# Altium integrated library National Semiconductor LDO.IntLib: 2675 symbols (part 52 of 65)
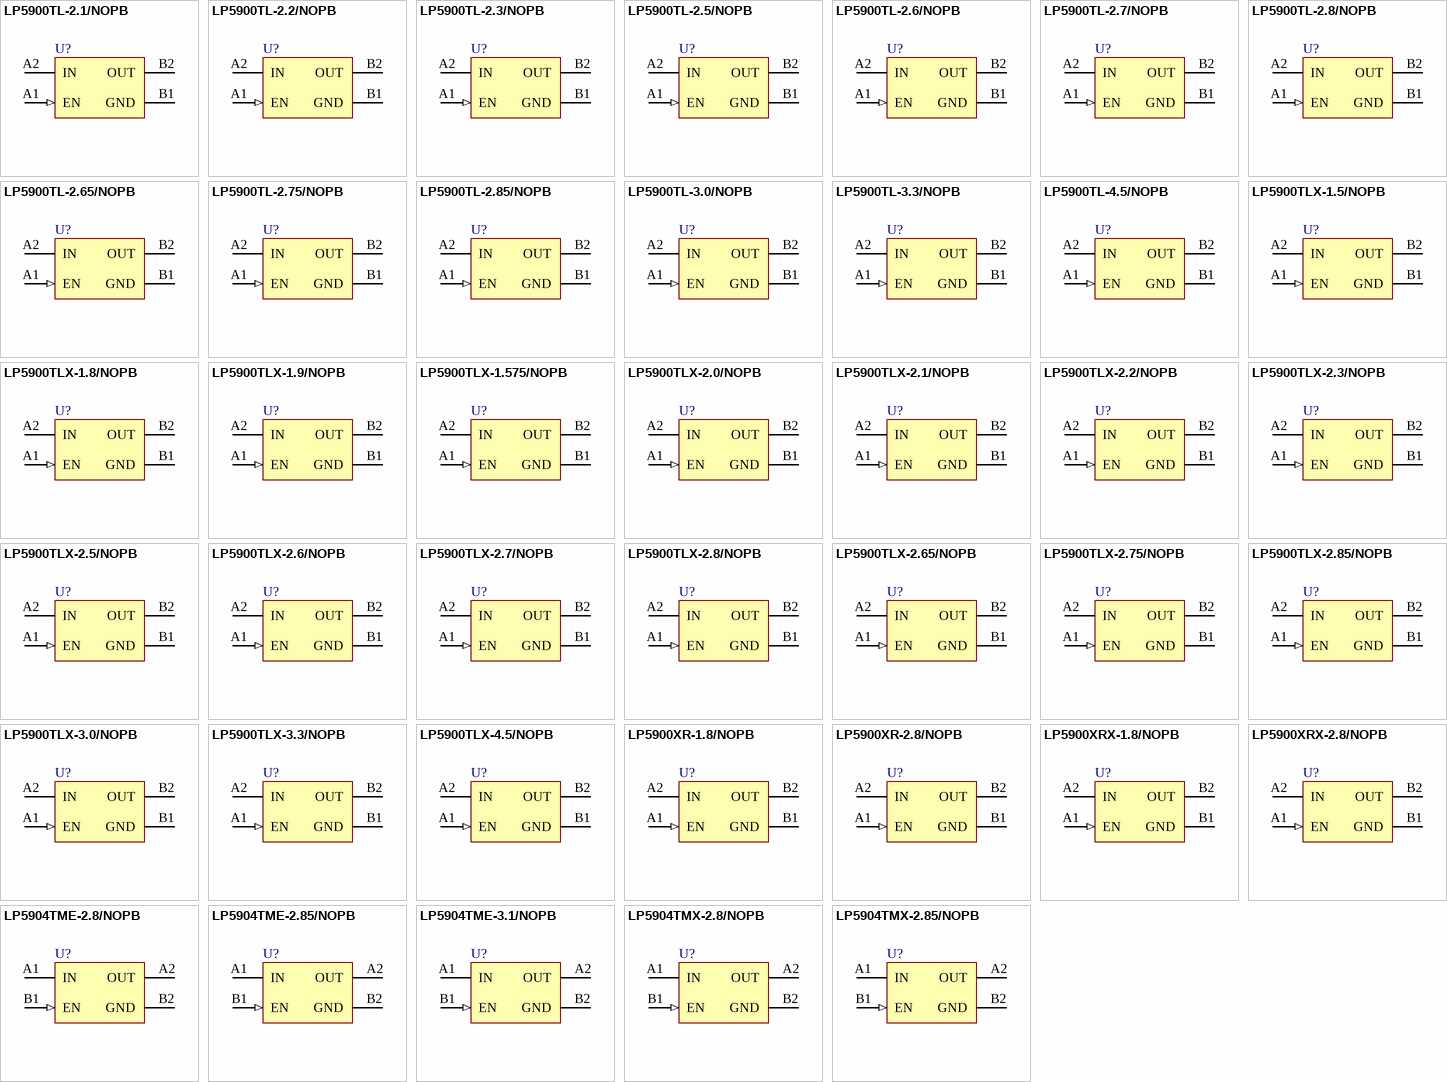
[diagram p118: symbols LP5900TL-2.1/NOPB to LP5904TMX-2.85/NOPB]

## LP5900TLX-1.9/NOPB
designator U?
Ultra Low Noise, 150mA Linear Regulator for RF/Analog Circuits Requires No Bypass Capacitor, 4-pin Micro SMD, Pb-Free; PartNumber: LP5900TLX-1.9/NOPB; Manufacturer: National Semiconductor; PackageTopMarking: X*I; PowerWise: N; CompType: LDO IC; High-Reliability: Y; DatasheetVersion: Jul-2010; PackageVersion: revD, Mar-2005; PackageReference: TLA04BCA; PackageDescription: Thin Micro SMD, 4 Bump (Large), 0.5mm Pitch; RoHS: Y; PinCount: 4; Code_JEDEC: MO-211-BA; ComponentLink1Description: Manufacturer URL; ComponentLink1URL: http://www.national.com/; ComponentLink2Description: LP5900 Datasheet; ComponentLink2URL: http://www.national.com/ds/LP/LP5900.pdf; ComponentLink3Description: LP5900 Web Page; ComponentLink3URL: http://www.national.com/pf/LP/LP5900.html; ComponentLink4Description: TLA04BCA Package Page; ComponentLink4URL: http://www.national.com/packaging/folders/tla04bca.html
footprint TLA04BCA (Micro SMD, 4-Leads, Body 1.07x1.04mm, Pitch 0.5mm, NSC Recommended)
pins: A1 EN (in), A2 IN (power), B1 GND (power), B2 OUT (power)

## LP5900TLX-1.575/NOPB
designator U?
Ultra Low Noise, 150mA Linear Regulator for RF/Analog Circuits Requires No Bypass Capacitor, 4-pin Micro SMD, Pb-Free; PartNumber: LP5900TLX-1.575/NOPB; Manufacturer: National Semiconductor; PackageTopMarking: X*I; PowerWise: N; CompType: LDO IC; High-Reliability: Y; DatasheetVersion: Jul-2010; PackageVersion: revD, Mar-2005; PackageReference: TLA04BCA; PackageDescription: Thin Micro SMD, 4 Bump (Large), 0.5mm Pitch; RoHS: Y; PinCount: 4; Code_JEDEC: MO-211-BA; ComponentLink1Description: Manufacturer URL; ComponentLink1URL: http://www.national.com/; ComponentLink2Description: LP5900 Datasheet; ComponentLink2URL: http://www.national.com/ds/LP/LP5900.pdf; ComponentLink3Description: LP5900 Web Page; ComponentLink3URL: http://www.national.com/pf/LP/LP5900.html; ComponentLink4Description: TLA04BCA Package Page; ComponentLink4URL: http://www.national.com/packaging/folders/tla04bca.html
footprint TLA04BCA (Micro SMD, 4-Leads, Body 1.07x1.04mm, Pitch 0.5mm, NSC Recommended)
pins: A1 EN (in), A2 IN (power), B1 GND (power), B2 OUT (power)

## LP5900TLX-2.0/NOPB
designator U?
Ultra Low Noise, 150mA Linear Regulator for RF/Analog Circuits Requires No Bypass Capacitor, 4-pin Micro SMD, Pb-Free; PartNumber: LP5900TLX-2.0/NOPB; Manufacturer: National Semiconductor; PackageTopMarking: X*I; PowerWise: N; CompType: LDO IC; High-Reliability: Y; DatasheetVersion: Jul-2010; PackageVersion: revD, Mar-2005; PackageReference: TLA04BCA; PackageDescription: Thin Micro SMD, 4 Bump (Large), 0.5mm Pitch; RoHS: Y; PinCount: 4; Code_JEDEC: MO-211-BA; ComponentLink1Description: Manufacturer URL; ComponentLink1URL: http://www.national.com/; ComponentLink2Description: LP5900 Datasheet; ComponentLink2URL: http://www.national.com/ds/LP/LP5900.pdf; ComponentLink3Description: LP5900 Web Page; ComponentLink3URL: http://www.national.com/pf/LP/LP5900.html; ComponentLink4Description: TLA04BCA Package Page; ComponentLink4URL: http://www.national.com/packaging/folders/tla04bca.html
footprint TLA04BCA (Micro SMD, 4-Leads, Body 1.07x1.04mm, Pitch 0.5mm, NSC Recommended)
pins: A1 EN (in), A2 IN (power), B1 GND (power), B2 OUT (power)

## LP5900TLX-2.1/NOPB
designator U?
Ultra Low Noise, 150mA Linear Regulator for RF/Analog Circuits Requires No Bypass Capacitor, 4-pin Micro SMD, Pb-Free; PartNumber: LP5900TLX-2.1/NOPB; Manufacturer: National Semiconductor; PackageTopMarking: X*I; PowerWise: N; CompType: LDO IC; High-Reliability: Y; DatasheetVersion: Jul-2010; PackageVersion: revD, Mar-2005; PackageReference: TLA04BCA; PackageDescription: Thin Micro SMD, 4 Bump (Large), 0.5mm Pitch; RoHS: Y; PinCount: 4; Code_JEDEC: MO-211-BA; ComponentLink1Description: Manufacturer URL; ComponentLink1URL: http://www.national.com/; ComponentLink2Description: LP5900 Datasheet; ComponentLink2URL: http://www.national.com/ds/LP/LP5900.pdf; ComponentLink3Description: LP5900 Web Page; ComponentLink3URL: http://www.national.com/pf/LP/LP5900.html; ComponentLink4Description: TLA04BCA Package Page; ComponentLink4URL: http://www.national.com/packaging/folders/tla04bca.html
footprint TLA04BCA (Micro SMD, 4-Leads, Body 1.07x1.04mm, Pitch 0.5mm, NSC Recommended)
pins: A1 EN (in), A2 IN (power), B1 GND (power), B2 OUT (power)

## LP5900TLX-2.2/NOPB
designator U?
Ultra Low Noise, 150mA Linear Regulator for RF/Analog Circuits Requires No Bypass Capacitor, 4-pin Micro SMD, Pb-Free; PartNumber: LP5900TLX-2.2/NOPB; Manufacturer: National Semiconductor; PackageTopMarking: X*I; PowerWise: N; CompType: LDO IC; High-Reliability: Y; DatasheetVersion: Jul-2010; PackageVersion: revD, Mar-2005; PackageReference: TLA04BCA; PackageDescription: Thin Micro SMD, 4 Bump (Large), 0.5mm Pitch; RoHS: Y; PinCount: 4; Code_JEDEC: MO-211-BA; ComponentLink1Description: Manufacturer URL; ComponentLink1URL: http://www.national.com/; ComponentLink2Description: LP5900 Datasheet; ComponentLink2URL: http://www.national.com/ds/LP/LP5900.pdf; ComponentLink3Description: LP5900 Web Page; ComponentLink3URL: http://www.national.com/pf/LP/LP5900.html; ComponentLink4Description: TLA04BCA Package Page; ComponentLink4URL: http://www.national.com/packaging/folders/tla04bca.html
footprint TLA04BCA (Micro SMD, 4-Leads, Body 1.07x1.04mm, Pitch 0.5mm, NSC Recommended)
pins: A1 EN (in), A2 IN (power), B1 GND (power), B2 OUT (power)

## LP5900TLX-2.3/NOPB
designator U?
Ultra Low Noise, 150mA Linear Regulator for RF/Analog Circuits Requires No Bypass Capacitor, 4-pin Micro SMD, Pb-Free; PartNumber: LP5900TLX-2.3/NOPB; Manufacturer: National Semiconductor; PackageTopMarking: X*I; PowerWise: N; CompType: LDO IC; High-Reliability: Y; DatasheetVersion: Jul-2010; PackageVersion: revD, Mar-2005; PackageReference: TLA04BCA; PackageDescription: Thin Micro SMD, 4 Bump (Large), 0.5mm Pitch; RoHS: Y; PinCount: 4; Code_JEDEC: MO-211-BA; ComponentLink1Description: Manufacturer URL; ComponentLink1URL: http://www.national.com/; ComponentLink2Description: LP5900 Datasheet; ComponentLink2URL: http://www.national.com/ds/LP/LP5900.pdf; ComponentLink3Description: LP5900 Web Page; ComponentLink3URL: http://www.national.com/pf/LP/LP5900.html; ComponentLink4Description: TLA04BCA Package Page; ComponentLink4URL: http://www.national.com/packaging/folders/tla04bca.html
footprint TLA04BCA (Micro SMD, 4-Leads, Body 1.07x1.04mm, Pitch 0.5mm, NSC Recommended)
pins: A1 EN (in), A2 IN (power), B1 GND (power), B2 OUT (power)

## LP5900TLX-2.5/NOPB
designator U?
Ultra Low Noise, 150mA Linear Regulator for RF/Analog Circuits Requires No Bypass Capacitor, 4-pin Micro SMD, Pb-Free; PartNumber: LP5900TLX-2.5/NOPB; Manufacturer: National Semiconductor; PackageTopMarking: X*I; PowerWise: N; CompType: LDO IC; High-Reliability: Y; DatasheetVersion: Jul-2010; PackageVersion: revD, Mar-2005; PackageReference: TLA04BCA; PackageDescription: Thin Micro SMD, 4 Bump (Large), 0.5mm Pitch; RoHS: Y; PinCount: 4; Code_JEDEC: MO-211-BA; ComponentLink1Description: Manufacturer URL; ComponentLink1URL: http://www.national.com/; ComponentLink2Description: LP5900 Datasheet; ComponentLink2URL: http://www.national.com/ds/LP/LP5900.pdf; ComponentLink3Description: LP5900 Web Page; ComponentLink3URL: http://www.national.com/pf/LP/LP5900.html; ComponentLink4Description: TLA04BCA Package Page; ComponentLink4URL: http://www.national.com/packaging/folders/tla04bca.html
footprint TLA04BCA (Micro SMD, 4-Leads, Body 1.07x1.04mm, Pitch 0.5mm, NSC Recommended)
pins: A1 EN (in), A2 IN (power), B1 GND (power), B2 OUT (power)

## LP5900TLX-2.6/NOPB
designator U?
Ultra Low Noise, 150mA Linear Regulator for RF/Analog Circuits Requires No Bypass Capacitor, 4-pin Micro SMD, Pb-Free; PartNumber: LP5900TLX-2.6/NOPB; Manufacturer: National Semiconductor; PackageTopMarking: X*I; PowerWise: N; CompType: LDO IC; High-Reliability: Y; DatasheetVersion: Jul-2010; PackageVersion: revD, Mar-2005; PackageReference: TLA04BCA; PackageDescription: Thin Micro SMD, 4 Bump (Large), 0.5mm Pitch; RoHS: Y; PinCount: 4; Code_JEDEC: MO-211-BA; ComponentLink1Description: Manufacturer URL; ComponentLink1URL: http://www.national.com/; ComponentLink2Description: LP5900 Datasheet; ComponentLink2URL: http://www.national.com/ds/LP/LP5900.pdf; ComponentLink3Description: LP5900 Web Page; ComponentLink3URL: http://www.national.com/pf/LP/LP5900.html; ComponentLink4Description: TLA04BCA Package Page; ComponentLink4URL: http://www.national.com/packaging/folders/tla04bca.html
footprint TLA04BCA (Micro SMD, 4-Leads, Body 1.07x1.04mm, Pitch 0.5mm, NSC Recommended)
pins: A1 EN (in), A2 IN (power), B1 GND (power), B2 OUT (power)

## LP5900TLX-2.7/NOPB
designator U?
Ultra Low Noise, 150mA Linear Regulator for RF/Analog Circuits Requires No Bypass Capacitor, 4-pin Micro SMD, Pb-Free; PartNumber: LP5900TLX-2.7/NOPB; Manufacturer: National Semiconductor; PackageTopMarking: X*I; PowerWise: N; CompType: LDO IC; High-Reliability: Y; DatasheetVersion: Jul-2010; PackageVersion: revD, Mar-2005; PackageReference: TLA04BCA; PackageDescription: Thin Micro SMD, 4 Bump (Large), 0.5mm Pitch; RoHS: Y; PinCount: 4; Code_JEDEC: MO-211-BA; ComponentLink1Description: Manufacturer URL; ComponentLink1URL: http://www.national.com/; ComponentLink2Description: LP5900 Datasheet; ComponentLink2URL: http://www.national.com/ds/LP/LP5900.pdf; ComponentLink3Description: LP5900 Web Page; ComponentLink3URL: http://www.national.com/pf/LP/LP5900.html; ComponentLink4Description: TLA04BCA Package Page; ComponentLink4URL: http://www.national.com/packaging/folders/tla04bca.html
footprint TLA04BCA (Micro SMD, 4-Leads, Body 1.07x1.04mm, Pitch 0.5mm, NSC Recommended)
pins: A1 EN (in), A2 IN (power), B1 GND (power), B2 OUT (power)

## LP5900TLX-2.8/NOPB
designator U?
Ultra Low Noise, 150mA Linear Regulator for RF/Analog Circuits Requires No Bypass Capacitor, 4-pin Micro SMD, Pb-Free; PartNumber: LP5900TLX-2.8/NOPB; Manufacturer: National Semiconductor; PackageTopMarking: X*I; PowerWise: N; CompType: LDO IC; High-Reliability: Y; DatasheetVersion: Jul-2010; PackageVersion: revD, Mar-2005; PackageReference: TLA04BCA; PackageDescription: Thin Micro SMD, 4 Bump (Large), 0.5mm Pitch; RoHS: Y; PinCount: 4; Code_JEDEC: MO-211-BA; ComponentLink1Description: Manufacturer URL; ComponentLink1URL: http://www.national.com/; ComponentLink2Description: LP5900 Datasheet; ComponentLink2URL: http://www.national.com/ds/LP/LP5900.pdf; ComponentLink3Description: LP5900 Web Page; ComponentLink3URL: http://www.national.com/pf/LP/LP5900.html; ComponentLink4Description: TLA04BCA Package Page; ComponentLink4URL: http://www.national.com/packaging/folders/tla04bca.html
footprint TLA04BCA (Micro SMD, 4-Leads, Body 1.07x1.04mm, Pitch 0.5mm, NSC Recommended)
pins: A1 EN (in), A2 IN (power), B1 GND (power), B2 OUT (power)

## LP5900TLX-2.65/NOPB
designator U?
Ultra Low Noise, 150mA Linear Regulator for RF/Analog Circuits Requires No Bypass Capacitor, 4 pin MICRO SMD; PartNumber: LP5900TLX-2.65/NOPB; Manufacturer: National Semiconductor; PackageTopMarking: X*I; PowerWise: N; CompType: LDO IC; High-Reliability: Y; DatasheetVersion: Jul-2010; PackageVersion: revD, Mar-2005; PackageReference: TLA04BCA; PackageDescription: Thin Micro SMD, 4 Bump (Large), 0.5mm Pitch; RoHS: Y; PinCount: 4; Code_JEDEC: MO-211-BA; ComponentLink1Description: Manufacturer URL; ComponentLink1URL: http://www.national.com/; ComponentLink2Description: LP5900 Datasheet; ComponentLink2URL: http://www.national.com/ds/LP/LP5900.pdf; ComponentLink3Description: LP5900 Web Page; ComponentLink3URL: http://www.national.com/pf/LP/LP5900.html; ComponentLink4Description: TLA04BCA Package Page; ComponentLink4URL: http://www.national.com/packaging/folders/tla04bca.html
footprint TLA04BCA (Micro SMD, 4-Leads, Body 1.07x1.04mm, Pitch 0.5mm, NSC Recommended)
pins: A1 EN (in), A2 IN (power), B1 GND (power), B2 OUT (power)

## LP5900TLX-2.75/NOPB
designator U?
Ultra Low Noise, 150mA Linear Regulator for RF/Analog Circuits Requires No Bypass Capacitor, 4-pin Micro SMD, Pb-Free; PartNumber: LP5900TLX-2.75/NOPB; Manufacturer: National Semiconductor; PackageTopMarking: X*I; PowerWise: N; CompType: LDO IC; High-Reliability: Y; DatasheetVersion: Jul-2010; PackageVersion: revD, Mar-2005; PackageReference: TLA04BCA; PackageDescription: Thin Micro SMD, 4 Bump (Large), 0.5mm Pitch; RoHS: Y; PinCount: 4; Code_JEDEC: MO-211-BA; ComponentLink1Description: Manufacturer URL; ComponentLink1URL: http://www.national.com/; ComponentLink2Description: LP5900 Datasheet; ComponentLink2URL: http://www.national.com/ds/LP/LP5900.pdf; ComponentLink3Description: LP5900 Web Page; ComponentLink3URL: http://www.national.com/pf/LP/LP5900.html; ComponentLink4Description: TLA04BCA Package Page; ComponentLink4URL: http://www.national.com/packaging/folders/tla04bca.html
footprint TLA04BCA (Micro SMD, 4-Leads, Body 1.07x1.04mm, Pitch 0.5mm, NSC Recommended)
pins: A1 EN (in), A2 IN (power), B1 GND (power), B2 OUT (power)

## LP5900TLX-2.85/NOPB
designator U?
Ultra Low Noise, 150mA Linear Regulator for RF/Analog Circuits Requires No Bypass Capacitor, 4-pin Micro SMD, Pb-Free; PartNumber: LP5900TLX-2.85/NOPB; Manufacturer: National Semiconductor; PackageTopMarking: X*I; PowerWise: N; CompType: LDO IC; High-Reliability: Y; DatasheetVersion: Jul-2010; PackageVersion: revD, Mar-2005; PackageReference: TLA04BCA; PackageDescription: Thin Micro SMD, 4 Bump (Large), 0.5mm Pitch; RoHS: Y; PinCount: 4; Code_JEDEC: MO-211-BA; ComponentLink1Description: Manufacturer URL; ComponentLink1URL: http://www.national.com/; ComponentLink2Description: LP5900 Datasheet; ComponentLink2URL: http://www.national.com/ds/LP/LP5900.pdf; ComponentLink3Description: LP5900 Web Page; ComponentLink3URL: http://www.national.com/pf/LP/LP5900.html; ComponentLink4Description: TLA04BCA Package Page; ComponentLink4URL: http://www.national.com/packaging/folders/tla04bca.html
footprint TLA04BCA (Micro SMD, 4-Leads, Body 1.07x1.04mm, Pitch 0.5mm, NSC Recommended)
pins: A1 EN (in), A2 IN (power), B1 GND (power), B2 OUT (power)

## LP5900TLX-3.0/NOPB
designator U?
Ultra Low Noise, 150mA Linear Regulator for RF/Analog Circuits Requires No Bypass Capacitor, 4-pin Micro SMD, Pb-Free; PartNumber: LP5900TLX-3.0/NOPB; Manufacturer: National Semiconductor; PackageTopMarking: X*I; PowerWise: N; CompType: LDO IC; High-Reliability: Y; DatasheetVersion: Jul-2010; PackageVersion: revD, Mar-2005; PackageReference: TLA04BCA; PackageDescription: Thin Micro SMD, 4 Bump (Large), 0.5mm Pitch; RoHS: Y; PinCount: 4; Code_JEDEC: MO-211-BA; ComponentLink1Description: Manufacturer URL; ComponentLink1URL: http://www.national.com/; ComponentLink2Description: LP5900 Datasheet; ComponentLink2URL: http://www.national.com/ds/LP/LP5900.pdf; ComponentLink3Description: LP5900 Web Page; ComponentLink3URL: http://www.national.com/pf/LP/LP5900.html; ComponentLink4Description: TLA04BCA Package Page; ComponentLink4URL: http://www.national.com/packaging/folders/tla04bca.html
footprint TLA04BCA (Micro SMD, 4-Leads, Body 1.07x1.04mm, Pitch 0.5mm, NSC Recommended)
pins: A1 EN (in), A2 IN (power), B1 GND (power), B2 OUT (power)

## LP5900TLX-3.3/NOPB
designator U?
Ultra Low Noise, 150mA Linear Regulator for RF/Analog Circuits Requires No Bypass Capacitor, 4-pin Micro SMD, Pb-Free; PartNumber: LP5900TLX-3.3/NOPB; Manufacturer: National Semiconductor; PackageTopMarking: X*I; PowerWise: N; CompType: LDO IC; High-Reliability: Y; DatasheetVersion: Jul-2010; PackageVersion: revD, Mar-2005; PackageReference: TLA04BCA; PackageDescription: Thin Micro SMD, 4 Bump (Large), 0.5mm Pitch; RoHS: Y; PinCount: 4; Code_JEDEC: MO-211-BA; ComponentLink1Description: Manufacturer URL; ComponentLink1URL: http://www.national.com/; ComponentLink2Description: LP5900 Datasheet; ComponentLink2URL: http://www.national.com/ds/LP/LP5900.pdf; ComponentLink3Description: LP5900 Web Page; ComponentLink3URL: http://www.national.com/pf/LP/LP5900.html; ComponentLink4Description: TLA04BCA Package Page; ComponentLink4URL: http://www.national.com/packaging/folders/tla04bca.html
footprint TLA04BCA (Micro SMD, 4-Leads, Body 1.07x1.04mm, Pitch 0.5mm, NSC Recommended)
pins: A1 EN (in), A2 IN (power), B1 GND (power), B2 OUT (power)

## LP5900TLX-4.5/NOPB
designator U?
Ultra Low Noise, 150mA Linear Regulator for RF/Analog Circuits Requires No Bypass Capacitor, 4-pin Micro SMD, Pb-Free; PartNumber: LP5900TLX-4.5/NOPB; Manufacturer: National Semiconductor; PackageTopMarking: X*I; PowerWise: N; CompType: LDO IC; High-Reliability: Y; DatasheetVersion: Jul-2010; PackageVersion: revD, Mar-2005; PackageReference: TLA04BCA; PackageDescription: Thin Micro SMD, 4 Bump (Large), 0.5mm Pitch; RoHS: Y; PinCount: 4; Code_JEDEC: MO-211-BA; ComponentLink1Description: Manufacturer URL; ComponentLink1URL: http://www.national.com/; ComponentLink2Description: LP5900 Datasheet; ComponentLink2URL: http://www.national.com/ds/LP/LP5900.pdf; ComponentLink3Description: LP5900 Web Page; ComponentLink3URL: http://www.national.com/pf/LP/LP5900.html; ComponentLink4Description: TLA04BCA Package Page; ComponentLink4URL: http://www.national.com/packaging/folders/tla04bca.html
footprint TLA04BCA (Micro SMD, 4-Leads, Body 1.07x1.04mm, Pitch 0.5mm, NSC Recommended)
pins: A1 EN (in), A2 IN (power), B1 GND (power), B2 OUT (power)

## LP5900XR-1.8/NOPB
designator U?
Ultra Low Noise, 150mA Linear Regulator for RF/Analog Circuits Requires No Bypass Capacitor, 4-pin Micro SMD, 250 Reel; PartNumber: LP5900XR-1.8/NOPB; Manufacturer: National Semiconductor; PackageTopMarking: X*I; PowerWise: N; CompType: LDO IC; High-Reliability: Y; DatasheetVersion: Jul-2010; PackageVersion: revC, Aug-2010; PackageReference: XRA04EFA; PackageDescription: Extreme Thin Micro SMD,4 Bump, Printed Bumps, 1.10 x 1.08 x 0.25 mm Body, 0.5mm Pitch; RoHS: Y; PinCount: 4; ComponentLink1Description: Manufacturer URL; ComponentLink1URL: http://www.national.com/; ComponentLink2Description: LP5900 Datasheet; ComponentLink2URL: http://www.national.com/ds/LP/LP5900.pdf; ComponentLink3Description: LP5900 Web Page; ComponentLink3URL: http://www.national.com/pf/LP/LP5900.html; ComponentLink4Description: XRA04EFA Package Page; ComponentLink4URL: http://www.national.com/packaging/folders/xra04efa.html
footprint XRA04EFA (Micro SMD, 4-Leads, Body 1.1x1.08mm, Pitch 0.5mm, NSC Recommended)
pins: A1 EN (in), A2 IN (power), B1 GND (power), B2 OUT (power)

## LP5900XR-2.8/NOPB
designator U?
Ultra Low Noise, 150mA Linear Regulator for RF/Analog Circuits Requires No Bypass Capacitor, 4-pin Micro SMD, 250 Reel; PartNumber: LP5900XR-2.8/NOPB; Manufacturer: National Semiconductor; PackageTopMarking: X*I; PowerWise: N; CompType: LDO IC; High-Reliability: Y; DatasheetVersion: Jul-2010; PackageVersion: revC, Aug-2010; PackageReference: XRA04EFA; PackageDescription: Extreme Thin Micro SMD,4 Bump, Printed Bumps, 1.10 x 1.08 x 0.25 mm Body, 0.5mm Pitch; RoHS: Y; PinCount: 4; ComponentLink1Description: Manufacturer URL; ComponentLink1URL: http://www.national.com/; ComponentLink2Description: LP5900 Datasheet; ComponentLink2URL: http://www.national.com/ds/LP/LP5900.pdf; ComponentLink3Description: LP5900 Web Page; ComponentLink3URL: http://www.national.com/pf/LP/LP5900.html; ComponentLink4Description: XRA04EFA Package Page; ComponentLink4URL: http://www.national.com/packaging/folders/xra04efa.html
footprint XRA04EFA (Micro SMD, 4-Leads, Body 1.1x1.08mm, Pitch 0.5mm, NSC Recommended)
pins: A1 EN (in), A2 IN (power), B1 GND (power), B2 OUT (power)

## LP5900XRX-1.8/NOPB
designator U?
Ultra Low Noise, 150mA Linear Regulator for RF/Analog Circuits Requires No Bypass Capacitor, 4-pin Micro SMD, 3000 Reel; PartNumber: LP5900XRX-1.8/NOPB; Manufacturer: National Semiconductor; PackageTopMarking: X*I; PowerWise: N; CompType: LDO IC; High-Reliability: Y; DatasheetVersion: Jul-2010; PackageVersion: revC, Aug-2010; PackageReference: XRA04EFA; PackageDescription: Extreme Thin Micro SMD,4 Bump, Printed Bumps, 1.10 x 1.08 x 0.25 mm Body, 0.5mm Pitch; RoHS: Y; PinCount: 4; ComponentLink1Description: Manufacturer URL; ComponentLink1URL: http://www.national.com/; ComponentLink2Description: LP5900 Datasheet; ComponentLink2URL: http://www.national.com/ds/LP/LP5900.pdf; ComponentLink3Description: LP5900 Web Page; ComponentLink3URL: http://www.national.com/pf/LP/LP5900.html; ComponentLink4Description: XRA04EFA Package Page; ComponentLink4URL: http://www.national.com/packaging/folders/xra04efa.html
footprint XRA04EFA (Micro SMD, 4-Leads, Body 1.1x1.08mm, Pitch 0.5mm, NSC Recommended)
pins: A1 EN (in), A2 IN (power), B1 GND (power), B2 OUT (power)

## LP5900XRX-2.8/NOPB
designator U?
Ultra Low Noise, 150mA Linear Regulator for RF/Analog Circuits Requires No Bypass Capacitor, 4-pin Micro SMD, 3000 Reel; PartNumber: LP5900XRX-2.8/NOPB; Manufacturer: National Semiconductor; PackageTopMarking: X*I; PowerWise: N; CompType: LDO IC; High-Reliability: Y; DatasheetVersion: Jul-2010; PackageVersion: revC, Aug-2010; PackageReference: XRA04EFA; PackageDescription: Extreme Thin Micro SMD,4 Bump, Printed Bumps, 1.10 x 1.08 x 0.25 mm Body, 0.5mm Pitch; RoHS: Y; PinCount: 4; ComponentLink1Description: Manufacturer URL; ComponentLink1URL: http://www.national.com/; ComponentLink2Description: LP5900 Datasheet; ComponentLink2URL: http://www.national.com/ds/LP/LP5900.pdf; ComponentLink3Description: LP5900 Web Page; ComponentLink3URL: http://www.national.com/pf/LP/LP5900.html; ComponentLink4Description: XRA04EFA Package Page; ComponentLink4URL: http://www.national.com/packaging/folders/xra04efa.html
footprint XRA04EFA (Micro SMD, 4-Leads, Body 1.1x1.08mm, Pitch 0.5mm, NSC Recommended)
pins: A1 EN (in), A2 IN (power), B1 GND (power), B2 OUT (power)

## LP5904TME-2.8/NOPB
designator U?
Ultra Low Noise, 200mA Linear Regulator for RF/Analog Circuits Requires No Bypass Capacitor, 4-pin Micro SMD, 250 Reel; PartNumber: LP5904TME-2.8/NOPB; Manufacturer: National Semiconductor; PackageTopMarking: X*I; PowerWise: N; CompType: LDO IC; High-Reliability: Y; DatasheetVersion: Sep-2011; PackageVersion: 2008; PackageReference: TMD04AAA; PackageDescription: Thin Micro SMD, 4 Bump, 0.4mm Pitch; RoHS: Y; PinCount: 4; ComponentLink1Description: Manufacturer URL; ComponentLink1URL: http://www.national.com/; ComponentLink2Description: LP5904 Datasheet; ComponentLink2URL: http://www.national.com/ds/LP/LP5904.pdf; ComponentLink3Description: LP5904 Web Page; ComponentLink3URL: http://www.national.com/pf/LP/LP5904.html; ComponentLink4Description: TMD04AAA Package Page; ComponentLink4URL: http://www.national.com/packaging/folders/tmd04aaa.html
footprint TMD04AAA (Micro SMD, 4-Leads, Body 0.82x0.82mm, Pitch 0.4mm, NSC Recommended)
pins: A1 IN (power), A2 OUT (power), B1 EN (in), B2 GND (power)

## LP5904TME-2.85/NOPB
designator U?
Ultra Low Noise, 200mA Linear Regulator for RF/Analog Circuits Requires No Bypass Capacitor, 4-pin Micro SMD, 250 Reel; PartNumber: LP5904TME-2.85/NOPB; Manufacturer: National Semiconductor; PackageTopMarking: X*I; PowerWise: N; CompType: LDO IC; High-Reliability: Y; DatasheetVersion: Sep-2011; PackageVersion: 2008; PackageReference: TMD04AAA; PackageDescription: Thin Micro SMD, 4 Bump, 0.4mm Pitch; RoHS: Y; PinCount: 4; ComponentLink1Description: Manufacturer URL; ComponentLink1URL: http://www.national.com/; ComponentLink2Description: LP5904 Datasheet; ComponentLink2URL: http://www.national.com/ds/LP/LP5904.pdf; ComponentLink3Description: LP5904 Web Page; ComponentLink3URL: http://www.national.com/pf/LP/LP5904.html; ComponentLink4Description: TMD04AAA Package Page; ComponentLink4URL: http://www.national.com/packaging/folders/tmd04aaa.html
footprint TMD04AAA (Micro SMD, 4-Leads, Body 0.82x0.82mm, Pitch 0.4mm, NSC Recommended)
pins: A1 IN (power), A2 OUT (power), B1 EN (in), B2 GND (power)

## LP5904TME-3.1/NOPB
designator U?
Ultra Low Noise, 200mA Linear Regulator for RF/Analog Circuits Requires No Bypass Capacitor, 4-pin Micro SMD, 250 Reel; PartNumber: LP5904TME-3.1/NOPB; Manufacturer: National Semiconductor; PackageTopMarking: X*I; PowerWise: N; CompType: LDO IC; High-Reliability: Y; DatasheetVersion: Sep-2011; PackageVersion: 2008; PackageReference: TMD04AAA; PackageDescription: Thin Micro SMD, 4 Bump, 0.4mm Pitch; RoHS: Y; PinCount: 4; ComponentLink1Description: Manufacturer URL; ComponentLink1URL: http://www.national.com/; ComponentLink2Description: LP5904 Datasheet; ComponentLink2URL: http://www.national.com/ds/LP/LP5904.pdf; ComponentLink3Description: LP5904 Web Page; ComponentLink3URL: http://www.national.com/pf/LP/LP5904.html; ComponentLink4Description: TMD04AAA Package Page; ComponentLink4URL: http://www.national.com/packaging/folders/tmd04aaa.html
footprint TMD04AAA (Micro SMD, 4-Leads, Body 0.82x0.82mm, Pitch 0.4mm, NSC Recommended)
pins: A1 IN (power), A2 OUT (power), B1 EN (in), B2 GND (power)

## LP5904TMX-2.8/NOPB
designator U?
Ultra Low Noise, 200mA Linear Regulator for RF/Analog Circuits Requires No Bypass Capacitor, 4-pin Micro SMD, 3000 Reel; PartNumber: LP5904TMX-2.8/NOPB; Manufacturer: National Semiconductor; PackageTopMarking: X*I; PowerWise: N; CompType: LDO IC; High-Reliability: Y; DatasheetVersion: Sep-2011; PackageVersion: 2008; PackageReference: TMD04AAA; PackageDescription: Thin Micro SMD, 4 Bump, 0.4mm Pitch; RoHS: Y; PinCount: 4; ComponentLink1Description: Manufacturer URL; ComponentLink1URL: http://www.national.com/; ComponentLink2Description: LP5904 Datasheet; ComponentLink2URL: http://www.national.com/ds/LP/LP5904.pdf; ComponentLink3Description: LP5904 Web Page; ComponentLink3URL: http://www.national.com/pf/LP/LP5904.html; ComponentLink4Description: TMD04AAA Package Page; ComponentLink4URL: http://www.national.com/packaging/folders/tmd04aaa.html
footprint TMD04AAA (Micro SMD, 4-Leads, Body 0.82x0.82mm, Pitch 0.4mm, NSC Recommended)
pins: A1 IN (power), A2 OUT (power), B1 EN (in), B2 GND (power)

## LP5904TMX-2.85/NOPB
designator U?
Ultra Low Noise, 200mA Linear Regulator for RF/Analog Circuits Requires No Bypass Capacitor, 4-pin Micro SMD, 3000 Reel; PartNumber: LP5904TMX-2.85/NOPB; Manufacturer: National Semiconductor; PackageTopMarking: X*I; PowerWise: N; CompType: LDO IC; High-Reliability: Y; DatasheetVersion: Sep-2011; PackageVersion: 2008; PackageReference: TMD04AAA; PackageDescription: Thin Micro SMD, 4 Bump, 0.4mm Pitch; RoHS: Y; PinCount: 4; ComponentLink1Description: Manufacturer URL; ComponentLink1URL: http://www.national.com/; ComponentLink2Description: LP5904 Datasheet; ComponentLink2URL: http://www.national.com/ds/LP/LP5904.pdf; ComponentLink3Description: LP5904 Web Page; ComponentLink3URL: http://www.national.com/pf/LP/LP5904.html; ComponentLink4Description: TMD04AAA Package Page; ComponentLink4URL: http://www.national.com/packaging/folders/tmd04aaa.html
footprint TMD04AAA (Micro SMD, 4-Leads, Body 0.82x0.82mm, Pitch 0.4mm, NSC Recommended)
pins: A1 IN (power), A2 OUT (power), B1 EN (in), B2 GND (power)

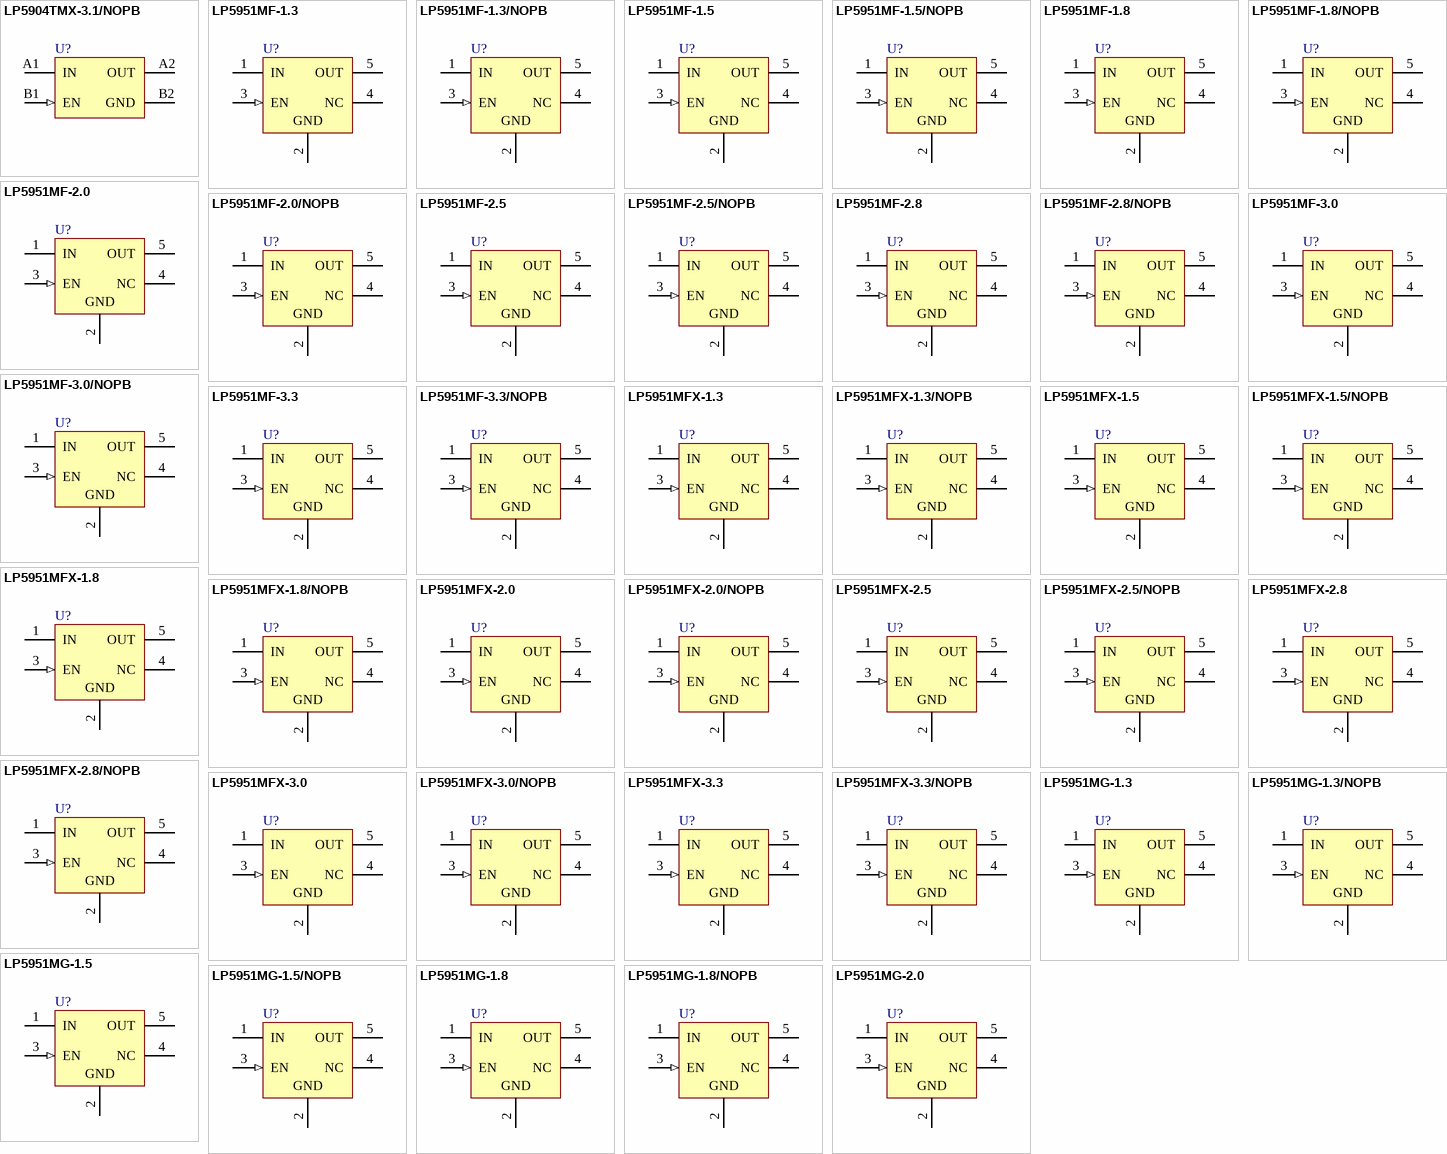
[diagram p54: symbols LP5904TMX-3.1/NOPB to LP5951MG-2.0]

## LP5904TMX-3.1/NOPB
designator U?
Ultra Low Noise, 200mA Linear Regulator for RF/Analog Circuits Requires No Bypass Capacitor, 4-pin Micro SMD, 3000 Reel; PartNumber: LP5904TMX-3.1/NOPB; Manufacturer: National Semiconductor; PackageTopMarking: X*I; PowerWise: N; CompType: LDO IC; High-Reliability: Y; DatasheetVersion: Sep-2011; PackageVersion: 2008; PackageReference: TMD04AAA; PackageDescription: Thin Micro SMD, 4 Bump, 0.4mm Pitch; RoHS: Y; PinCount: 4; ComponentLink1Description: Manufacturer URL; ComponentLink1URL: http://www.national.com/; ComponentLink2Description: LP5904 Datasheet; ComponentLink2URL: http://www.national.com/ds/LP/LP5904.pdf; ComponentLink3Description: LP5904 Web Page; ComponentLink3URL: http://www.national.com/pf/LP/LP5904.html; ComponentLink4Description: TMD04AAA Package Page; ComponentLink4URL: http://www.national.com/packaging/folders/tmd04aaa.html
footprint TMD04AAA (Micro SMD, 4-Leads, Body 0.82x0.82mm, Pitch 0.4mm, NSC Recommended)
pins: A1 IN (power), A2 OUT (power), B1 EN (in), B2 GND (power)

## LP5951MF-1.3
designator U?
Micropower, 150mA Low-Dropout CMOS Voltage Regulator, 5-pin SOT-23; PartNumber: LP5951MF-1.3; Manufacturer: National Semiconductor; PackageTopMarking: LKRB*XTT; PowerWise: N; CompType: LDO IC; High-Reliability: Y; DatasheetVersion: Jan-2011; PackageVersion: revD, Aug-2008; PackageReference: MF05A; PackageDescription: Molded SOT-23, .115 x .063 x .040 in Body, 5 Lead, .0375 in Pitch; RoHS: N; PinCount: 5; ComponentLink1Description: Manufacturer URL; ComponentLink1URL: http://www.national.com/; ComponentLink2Description: LP5951 Datasheet; ComponentLink2URL: http://www.national.com/ds/LP/LP5951.pdf; ComponentLink3Description: LP5951 Web Page; ComponentLink3URL: http://www.national.com/pf/LP/LP5951.html; ComponentLink4Description: MF05A Package Page; ComponentLink4URL: http://www.national.com/packaging/folders/mf05a.html
footprint MF05A_N (SOT23, 5-Leads, Body 2.9x1.6mm, Pitch 0.95mm, Lead Span 2.8mm, IPC Medium Density)
footprint MF05A_L (SOT23, 5-Leads, Body 2.9x1.6mm, Pitch 0.95mm, Lead Span 2.8mm, IPC High Density)
footprint MF05A_M (SOT23, 5-Leads, Body 2.9x1.6mm, Pitch 0.95mm, Lead Span 2.8mm, IPC Low Density)
pins: 1 IN (power), 2 GND (power), 3 EN (in), 4 NC, 5 OUT (power)

## LP5951MF-1.3/NOPB
designator U?
Micropower, 150mA Low-Dropout CMOS Voltage Regulator, 5-pin SOT-23, Pb-Free; PartNumber: LP5951MF-1.3/NOPB; Manufacturer: National Semiconductor; PackageTopMarking: LKRB*XTT; PowerWise: N; CompType: LDO IC; High-Reliability: Y; DatasheetVersion: Jan-2011; PackageVersion: revD, Aug-2008; PackageReference: MF05A; PackageDescription: Molded SOT-23, .115 x .063 x .040 in Body, 5 Lead, .0375 in Pitch; RoHS: Y; PinCount: 5; ComponentLink1Description: Manufacturer URL; ComponentLink1URL: http://www.national.com/; ComponentLink2Description: LP5951 Datasheet; ComponentLink2URL: http://www.national.com/ds/LP/LP5951.pdf; ComponentLink3Description: LP5951 Web Page; ComponentLink3URL: http://www.national.com/pf/LP/LP5951.html; ComponentLink4Description: MF05A Package Page; ComponentLink4URL: http://www.national.com/packaging/folders/mf05a.html
footprint MF05A_N (SOT23, 5-Leads, Body 2.9x1.6mm, Pitch 0.95mm, Lead Span 2.8mm, IPC Medium Density)
footprint MF05A_L (SOT23, 5-Leads, Body 2.9x1.6mm, Pitch 0.95mm, Lead Span 2.8mm, IPC High Density)
footprint MF05A_M (SOT23, 5-Leads, Body 2.9x1.6mm, Pitch 0.95mm, Lead Span 2.8mm, IPC Low Density)
pins: 1 IN (power), 2 GND (power), 3 EN (in), 4 NC, 5 OUT (power)

## LP5951MF-1.5
designator U?
Micropower, 150mA Low-Dropout CMOS Voltage Regulator, 5-pin SOT-23; PartNumber: LP5951MF-1.5; Manufacturer: National Semiconductor; PackageTopMarking: LKAB*XTT; PowerWise: N; CompType: LDO IC; High-Reliability: Y; DatasheetVersion: Jan-2011; PackageVersion: revD, Aug-2008; PackageReference: MF05A; PackageDescription: Molded SOT-23, .115 x .063 x .040 in Body, 5 Lead, .0375 in Pitch; RoHS: N; PinCount: 5; ComponentLink1Description: Manufacturer URL; ComponentLink1URL: http://www.national.com/; ComponentLink2Description: LP5951 Datasheet; ComponentLink2URL: http://www.national.com/ds/LP/LP5951.pdf; ComponentLink3Description: LP5951 Web Page; ComponentLink3URL: http://www.national.com/pf/LP/LP5951.html; ComponentLink4Description: MF05A Package Page; ComponentLink4URL: http://www.national.com/packaging/folders/mf05a.html
footprint MF05A_N (SOT23, 5-Leads, Body 2.9x1.6mm, Pitch 0.95mm, Lead Span 2.8mm, IPC Medium Density)
footprint MF05A_L (SOT23, 5-Leads, Body 2.9x1.6mm, Pitch 0.95mm, Lead Span 2.8mm, IPC High Density)
footprint MF05A_M (SOT23, 5-Leads, Body 2.9x1.6mm, Pitch 0.95mm, Lead Span 2.8mm, IPC Low Density)
pins: 1 IN (power), 2 GND (power), 3 EN (in), 4 NC, 5 OUT (power)

## LP5951MF-1.5/NOPB
designator U?
Micropower, 150mA Low-Dropout CMOS Voltage Regulator, 5-pin SOT-23, Pb-Free; PartNumber: LP5951MF-1.5/NOPB; Manufacturer: National Semiconductor; PackageTopMarking: LKAB*XTT; PowerWise: N; CompType: LDO IC; High-Reliability: Y; DatasheetVersion: Jan-2011; PackageVersion: revD, Aug-2008; PackageReference: MF05A; PackageDescription: Molded SOT-23, .115 x .063 x .040 in Body, 5 Lead, .0375 in Pitch; RoHS: Y; PinCount: 5; ComponentLink1Description: Manufacturer URL; ComponentLink1URL: http://www.national.com/; ComponentLink2Description: LP5951 Datasheet; ComponentLink2URL: http://www.national.com/ds/LP/LP5951.pdf; ComponentLink3Description: LP5951 Web Page; ComponentLink3URL: http://www.national.com/pf/LP/LP5951.html; ComponentLink4Description: MF05A Package Page; ComponentLink4URL: http://www.national.com/packaging/folders/mf05a.html
footprint MF05A_N (SOT23, 5-Leads, Body 2.9x1.6mm, Pitch 0.95mm, Lead Span 2.8mm, IPC Medium Density)
footprint MF05A_L (SOT23, 5-Leads, Body 2.9x1.6mm, Pitch 0.95mm, Lead Span 2.8mm, IPC High Density)
footprint MF05A_M (SOT23, 5-Leads, Body 2.9x1.6mm, Pitch 0.95mm, Lead Span 2.8mm, IPC Low Density)
pins: 1 IN (power), 2 GND (power), 3 EN (in), 4 NC, 5 OUT (power)

## LP5951MF-1.8
designator U?
Micropower, 150mA Low-Dropout CMOS Voltage Regulator, 5-pin SOT-23; PartNumber: LP5951MF-1.8; Manufacturer: National Semiconductor; PackageTopMarking: LKBB*XTT; PowerWise: N; CompType: LDO IC; High-Reliability: Y; DatasheetVersion: Jan-2011; PackageVersion: revD, Aug-2008; PackageReference: MF05A; PackageDescription: Molded SOT-23, .115 x .063 x .040 in Body, 5 Lead, .0375 in Pitch; RoHS: N; PinCount: 5; ComponentLink1Description: Manufacturer URL; ComponentLink1URL: http://www.national.com/; ComponentLink2Description: LP5951 Datasheet; ComponentLink2URL: http://www.national.com/ds/LP/LP5951.pdf; ComponentLink3Description: LP5951 Web Page; ComponentLink3URL: http://www.national.com/pf/LP/LP5951.html; ComponentLink4Description: MF05A Package Page; ComponentLink4URL: http://www.national.com/packaging/folders/mf05a.html
footprint MF05A_N (SOT23, 5-Leads, Body 2.9x1.6mm, Pitch 0.95mm, Lead Span 2.8mm, IPC Medium Density)
footprint MF05A_L (SOT23, 5-Leads, Body 2.9x1.6mm, Pitch 0.95mm, Lead Span 2.8mm, IPC High Density)
footprint MF05A_M (SOT23, 5-Leads, Body 2.9x1.6mm, Pitch 0.95mm, Lead Span 2.8mm, IPC Low Density)
pins: 1 IN (power), 2 GND (power), 3 EN (in), 4 NC, 5 OUT (power)

## LP5951MF-1.8/NOPB
designator U?
Micropower, 150mA Low-Dropout CMOS Voltage Regulator, 5-pin SOT-23, Pb-Free; PartNumber: LP5951MF-1.8/NOPB; Manufacturer: National Semiconductor; PackageTopMarking: LKBB*XTT; PowerWise: N; CompType: LDO IC; High-Reliability: Y; DatasheetVersion: Jan-2011; PackageVersion: revD, Aug-2008; PackageReference: MF05A; PackageDescription: Molded SOT-23, .115 x .063 x .040 in Body, 5 Lead, .0375 in Pitch; RoHS: Y; PinCount: 5; ComponentLink1Description: Manufacturer URL; ComponentLink1URL: http://www.national.com/; ComponentLink2Description: LP5951 Datasheet; ComponentLink2URL: http://www.national.com/ds/LP/LP5951.pdf; ComponentLink3Description: LP5951 Web Page; ComponentLink3URL: http://www.national.com/pf/LP/LP5951.html; ComponentLink4Description: MF05A Package Page; ComponentLink4URL: http://www.national.com/packaging/folders/mf05a.html
footprint MF05A_N (SOT23, 5-Leads, Body 2.9x1.6mm, Pitch 0.95mm, Lead Span 2.8mm, IPC Medium Density)
footprint MF05A_L (SOT23, 5-Leads, Body 2.9x1.6mm, Pitch 0.95mm, Lead Span 2.8mm, IPC High Density)
footprint MF05A_M (SOT23, 5-Leads, Body 2.9x1.6mm, Pitch 0.95mm, Lead Span 2.8mm, IPC Low Density)
pins: 1 IN (power), 2 GND (power), 3 EN (in), 4 NC, 5 OUT (power)

## LP5951MF-2.0
designator U?
Micropower, 150mA Low-Dropout CMOS Voltage Regulator, 5-pin SOT-23; PartNumber: LP5951MF-2.0; Manufacturer: National Semiconductor; PackageTopMarking: LKCB*XTT; PowerWise: N; CompType: LDO IC; High-Reliability: Y; DatasheetVersion: Jan-2011; PackageVersion: revD, Aug-2008; PackageReference: MF05A; PackageDescription: Molded SOT-23, .115 x .063 x .040 in Body, 5 Lead, .0375 in Pitch; RoHS: N; PinCount: 5; ComponentLink1Description: Manufacturer URL; ComponentLink1URL: http://www.national.com/; ComponentLink2Description: LP5951 Datasheet; ComponentLink2URL: http://www.national.com/ds/LP/LP5951.pdf; ComponentLink3Description: LP5951 Web Page; ComponentLink3URL: http://www.national.com/pf/LP/LP5951.html; ComponentLink4Description: MF05A Package Page; ComponentLink4URL: http://www.national.com/packaging/folders/mf05a.html
footprint MF05A_N (SOT23, 5-Leads, Body 2.9x1.6mm, Pitch 0.95mm, Lead Span 2.8mm, IPC Medium Density)
footprint MF05A_L (SOT23, 5-Leads, Body 2.9x1.6mm, Pitch 0.95mm, Lead Span 2.8mm, IPC High Density)
footprint MF05A_M (SOT23, 5-Leads, Body 2.9x1.6mm, Pitch 0.95mm, Lead Span 2.8mm, IPC Low Density)
pins: 1 IN (power), 2 GND (power), 3 EN (in), 4 NC, 5 OUT (power)

## LP5951MF-2.0/NOPB
designator U?
Micropower, 150mA Low-Dropout CMOS Voltage Regulator, 5-pin SOT-23, Pb-Free; PartNumber: LP5951MF-2.0/NOPB; Manufacturer: National Semiconductor; PackageTopMarking: LKCB*XTT; PowerWise: N; CompType: LDO IC; High-Reliability: Y; DatasheetVersion: Jan-2011; PackageVersion: revD, Aug-2008; PackageReference: MF05A; PackageDescription: Molded SOT-23, .115 x .063 x .040 in Body, 5 Lead, .0375 in Pitch; RoHS: Y; PinCount: 5; ComponentLink1Description: Manufacturer URL; ComponentLink1URL: http://www.national.com/; ComponentLink2Description: LP5951 Datasheet; ComponentLink2URL: http://www.national.com/ds/LP/LP5951.pdf; ComponentLink3Description: LP5951 Web Page; ComponentLink3URL: http://www.national.com/pf/LP/LP5951.html; ComponentLink4Description: MF05A Package Page; ComponentLink4URL: http://www.national.com/packaging/folders/mf05a.html
footprint MF05A_N (SOT23, 5-Leads, Body 2.9x1.6mm, Pitch 0.95mm, Lead Span 2.8mm, IPC Medium Density)
footprint MF05A_L (SOT23, 5-Leads, Body 2.9x1.6mm, Pitch 0.95mm, Lead Span 2.8mm, IPC High Density)
footprint MF05A_M (SOT23, 5-Leads, Body 2.9x1.6mm, Pitch 0.95mm, Lead Span 2.8mm, IPC Low Density)
pins: 1 IN (power), 2 GND (power), 3 EN (in), 4 NC, 5 OUT (power)

## LP5951MF-2.5
designator U?
Micropower, 150mA Low-Dropout CMOS Voltage Regulator, 5-pin SOT-23; PartNumber: LP5951MF-2.5; Manufacturer: National Semiconductor; PackageTopMarking: LKEB*XTT; PowerWise: N; CompType: LDO IC; High-Reliability: Y; DatasheetVersion: Jan-2011; PackageVersion: revD, Aug-2008; PackageReference: MF05A; PackageDescription: Molded SOT-23, .115 x .063 x .040 in Body, 5 Lead, .0375 in Pitch; RoHS: N; PinCount: 5; ComponentLink1Description: Manufacturer URL; ComponentLink1URL: http://www.national.com/; ComponentLink2Description: LP5951 Datasheet; ComponentLink2URL: http://www.national.com/ds/LP/LP5951.pdf; ComponentLink3Description: LP5951 Web Page; ComponentLink3URL: http://www.national.com/pf/LP/LP5951.html; ComponentLink4Description: MF05A Package Page; ComponentLink4URL: http://www.national.com/packaging/folders/mf05a.html
footprint MF05A_N (SOT23, 5-Leads, Body 2.9x1.6mm, Pitch 0.95mm, Lead Span 2.8mm, IPC Medium Density)
footprint MF05A_L (SOT23, 5-Leads, Body 2.9x1.6mm, Pitch 0.95mm, Lead Span 2.8mm, IPC High Density)
footprint MF05A_M (SOT23, 5-Leads, Body 2.9x1.6mm, Pitch 0.95mm, Lead Span 2.8mm, IPC Low Density)
pins: 1 IN (power), 2 GND (power), 3 EN (in), 4 NC, 5 OUT (power)

## LP5951MF-2.5/NOPB
designator U?
Micropower, 150mA Low-Dropout CMOS Voltage Regulator, 5-pin SOT-23, Pb-Free; PartNumber: LP5951MF-2.5/NOPB; Manufacturer: National Semiconductor; PackageTopMarking: LKEB*XTT; PowerWise: N; CompType: LDO IC; High-Reliability: Y; DatasheetVersion: Jan-2011; PackageVersion: revD, Aug-2008; PackageReference: MF05A; PackageDescription: Molded SOT-23, .115 x .063 x .040 in Body, 5 Lead, .0375 in Pitch; RoHS: Y; PinCount: 5; ComponentLink1Description: Manufacturer URL; ComponentLink1URL: http://www.national.com/; ComponentLink2Description: LP5951 Datasheet; ComponentLink2URL: http://www.national.com/ds/LP/LP5951.pdf; ComponentLink3Description: LP5951 Web Page; ComponentLink3URL: http://www.national.com/pf/LP/LP5951.html; ComponentLink4Description: MF05A Package Page; ComponentLink4URL: http://www.national.com/packaging/folders/mf05a.html
footprint MF05A_N (SOT23, 5-Leads, Body 2.9x1.6mm, Pitch 0.95mm, Lead Span 2.8mm, IPC Medium Density)
footprint MF05A_L (SOT23, 5-Leads, Body 2.9x1.6mm, Pitch 0.95mm, Lead Span 2.8mm, IPC High Density)
footprint MF05A_M (SOT23, 5-Leads, Body 2.9x1.6mm, Pitch 0.95mm, Lead Span 2.8mm, IPC Low Density)
pins: 1 IN (power), 2 GND (power), 3 EN (in), 4 NC, 5 OUT (power)

## LP5951MF-2.8
designator U?
Micropower, 150mA Low-Dropout CMOS Voltage Regulator, 5-pin SOT-23; PartNumber: LP5951MF-2.8; Manufacturer: National Semiconductor; PackageTopMarking: LKFB*XTT; PowerWise: N; CompType: LDO IC; High-Reliability: Y; DatasheetVersion: Jan-2011; PackageVersion: revD, Aug-2008; PackageReference: MF05A; PackageDescription: Molded SOT-23, .115 x .063 x .040 in Body, 5 Lead, .0375 in Pitch; RoHS: N; PinCount: 5; ComponentLink1Description: Manufacturer URL; ComponentLink1URL: http://www.national.com/; ComponentLink2Description: LP5951 Datasheet; ComponentLink2URL: http://www.national.com/ds/LP/LP5951.pdf; ComponentLink3Description: LP5951 Web Page; ComponentLink3URL: http://www.national.com/pf/LP/LP5951.html; ComponentLink4Description: MF05A Package Page; ComponentLink4URL: http://www.national.com/packaging/folders/mf05a.html
footprint MF05A_N (SOT23, 5-Leads, Body 2.9x1.6mm, Pitch 0.95mm, Lead Span 2.8mm, IPC Medium Density)
footprint MF05A_L (SOT23, 5-Leads, Body 2.9x1.6mm, Pitch 0.95mm, Lead Span 2.8mm, IPC High Density)
footprint MF05A_M (SOT23, 5-Leads, Body 2.9x1.6mm, Pitch 0.95mm, Lead Span 2.8mm, IPC Low Density)
pins: 1 IN (power), 2 GND (power), 3 EN (in), 4 NC, 5 OUT (power)

## LP5951MF-2.8/NOPB
designator U?
Micropower, 150mA Low-Dropout CMOS Voltage Regulator, 5-pin SOT-23, Pb-Free; PartNumber: LP5951MF-2.8/NOPB; Manufacturer: National Semiconductor; PackageTopMarking: LKFB*XTT; PowerWise: N; CompType: LDO IC; High-Reliability: Y; DatasheetVersion: Jan-2011; PackageVersion: revD, Aug-2008; PackageReference: MF05A; PackageDescription: Molded SOT-23, .115 x .063 x .040 in Body, 5 Lead, .0375 in Pitch; RoHS: Y; PinCount: 5; ComponentLink1Description: Manufacturer URL; ComponentLink1URL: http://www.national.com/; ComponentLink2Description: LP5951 Datasheet; ComponentLink2URL: http://www.national.com/ds/LP/LP5951.pdf; ComponentLink3Description: LP5951 Web Page; ComponentLink3URL: http://www.national.com/pf/LP/LP5951.html; ComponentLink4Description: MF05A Package Page; ComponentLink4URL: http://www.national.com/packaging/folders/mf05a.html
footprint MF05A_N (SOT23, 5-Leads, Body 2.9x1.6mm, Pitch 0.95mm, Lead Span 2.8mm, IPC Medium Density)
footprint MF05A_L (SOT23, 5-Leads, Body 2.9x1.6mm, Pitch 0.95mm, Lead Span 2.8mm, IPC High Density)
footprint MF05A_M (SOT23, 5-Leads, Body 2.9x1.6mm, Pitch 0.95mm, Lead Span 2.8mm, IPC Low Density)
pins: 1 IN (power), 2 GND (power), 3 EN (in), 4 NC, 5 OUT (power)

## LP5951MF-3.0
designator U?
Micropower, 150mA Low-Dropout CMOS Voltage Regulator, 5-pin SOT-23; PartNumber: LP5951MF-3.0; Manufacturer: National Semiconductor; PackageTopMarking: LKGB*XTT; PowerWise: N; CompType: LDO IC; High-Reliability: Y; DatasheetVersion: Jan-2011; PackageVersion: revD, Aug-2008; PackageReference: MF05A; PackageDescription: Molded SOT-23, .115 x .063 x .040 in Body, 5 Lead, .0375 in Pitch; RoHS: N; PinCount: 5; ComponentLink1Description: Manufacturer URL; ComponentLink1URL: http://www.national.com/; ComponentLink2Description: LP5951 Datasheet; ComponentLink2URL: http://www.national.com/ds/LP/LP5951.pdf; ComponentLink3Description: LP5951 Web Page; ComponentLink3URL: http://www.national.com/pf/LP/LP5951.html; ComponentLink4Description: MF05A Package Page; ComponentLink4URL: http://www.national.com/packaging/folders/mf05a.html
footprint MF05A_N (SOT23, 5-Leads, Body 2.9x1.6mm, Pitch 0.95mm, Lead Span 2.8mm, IPC Medium Density)
footprint MF05A_L (SOT23, 5-Leads, Body 2.9x1.6mm, Pitch 0.95mm, Lead Span 2.8mm, IPC High Density)
footprint MF05A_M (SOT23, 5-Leads, Body 2.9x1.6mm, Pitch 0.95mm, Lead Span 2.8mm, IPC Low Density)
pins: 1 IN (power), 2 GND (power), 3 EN (in), 4 NC, 5 OUT (power)

## LP5951MF-3.0/NOPB
designator U?
Micropower, 150mA Low-Dropout CMOS Voltage Regulator, 5-pin SOT-23, Pb-Free; PartNumber: LP5951MF-3.0/NOPB; Manufacturer: National Semiconductor; PackageTopMarking: LKGB*XTT; PowerWise: N; CompType: LDO IC; High-Reliability: Y; DatasheetVersion: Jan-2011; PackageVersion: revD, Aug-2008; PackageReference: MF05A; PackageDescription: Molded SOT-23, .115 x .063 x .040 in Body, 5 Lead, .0375 in Pitch; RoHS: Y; PinCount: 5; ComponentLink1Description: Manufacturer URL; ComponentLink1URL: http://www.national.com/; ComponentLink2Description: LP5951 Datasheet; ComponentLink2URL: http://www.national.com/ds/LP/LP5951.pdf; ComponentLink3Description: LP5951 Web Page; ComponentLink3URL: http://www.national.com/pf/LP/LP5951.html; ComponentLink4Description: MF05A Package Page; ComponentLink4URL: http://www.national.com/packaging/folders/mf05a.html
footprint MF05A_N (SOT23, 5-Leads, Body 2.9x1.6mm, Pitch 0.95mm, Lead Span 2.8mm, IPC Medium Density)
footprint MF05A_L (SOT23, 5-Leads, Body 2.9x1.6mm, Pitch 0.95mm, Lead Span 2.8mm, IPC High Density)
footprint MF05A_M (SOT23, 5-Leads, Body 2.9x1.6mm, Pitch 0.95mm, Lead Span 2.8mm, IPC Low Density)
pins: 1 IN (power), 2 GND (power), 3 EN (in), 4 NC, 5 OUT (power)

## LP5951MF-3.3
designator U?
Micropower, 150mA Low-Dropout CMOS Voltage Regulator, 5-pin SOT-23; PartNumber: LP5951MF-3.3; Manufacturer: National Semiconductor; PackageTopMarking: LKHB*XTT; PowerWise: N; CompType: LDO IC; High-Reliability: Y; DatasheetVersion: Jan-2011; PackageVersion: revD, Aug-2008; PackageReference: MF05A; PackageDescription: Molded SOT-23, .115 x .063 x .040 in Body, 5 Lead, .0375 in Pitch; RoHS: N; PinCount: 5; ComponentLink1Description: Manufacturer URL; ComponentLink1URL: http://www.national.com/; ComponentLink2Description: LP5951 Datasheet; ComponentLink2URL: http://www.national.com/ds/LP/LP5951.pdf; ComponentLink3Description: LP5951 Web Page; ComponentLink3URL: http://www.national.com/pf/LP/LP5951.html; ComponentLink4Description: MF05A Package Page; ComponentLink4URL: http://www.national.com/packaging/folders/mf05a.html
footprint MF05A_N (SOT23, 5-Leads, Body 2.9x1.6mm, Pitch 0.95mm, Lead Span 2.8mm, IPC Medium Density)
footprint MF05A_L (SOT23, 5-Leads, Body 2.9x1.6mm, Pitch 0.95mm, Lead Span 2.8mm, IPC High Density)
footprint MF05A_M (SOT23, 5-Leads, Body 2.9x1.6mm, Pitch 0.95mm, Lead Span 2.8mm, IPC Low Density)
pins: 1 IN (power), 2 GND (power), 3 EN (in), 4 NC, 5 OUT (power)

## LP5951MF-3.3/NOPB
designator U?
Micropower, 150mA Low-Dropout CMOS Voltage Regulator, 5-pin SOT-23, Pb-Free; PartNumber: LP5951MF-3.3/NOPB; Manufacturer: National Semiconductor; PackageTopMarking: LKHB*XTT; PowerWise: N; CompType: LDO IC; High-Reliability: Y; DatasheetVersion: Jan-2011; PackageVersion: revD, Aug-2008; PackageReference: MF05A; PackageDescription: Molded SOT-23, .115 x .063 x .040 in Body, 5 Lead, .0375 in Pitch; RoHS: Y; PinCount: 5; ComponentLink1Description: Manufacturer URL; ComponentLink1URL: http://www.national.com/; ComponentLink2Description: LP5951 Datasheet; ComponentLink2URL: http://www.national.com/ds/LP/LP5951.pdf; ComponentLink3Description: LP5951 Web Page; ComponentLink3URL: http://www.national.com/pf/LP/LP5951.html; ComponentLink4Description: MF05A Package Page; ComponentLink4URL: http://www.national.com/packaging/folders/mf05a.html
footprint MF05A_N (SOT23, 5-Leads, Body 2.9x1.6mm, Pitch 0.95mm, Lead Span 2.8mm, IPC Medium Density)
footprint MF05A_L (SOT23, 5-Leads, Body 2.9x1.6mm, Pitch 0.95mm, Lead Span 2.8mm, IPC High Density)
footprint MF05A_M (SOT23, 5-Leads, Body 2.9x1.6mm, Pitch 0.95mm, Lead Span 2.8mm, IPC Low Density)
pins: 1 IN (power), 2 GND (power), 3 EN (in), 4 NC, 5 OUT (power)

## LP5951MFX-1.3
designator U?
Micropower, 150mA Low-Dropout CMOS Voltage Regulator, 5-pin SOT-23; PartNumber: LP5951MFX-1.3; Manufacturer: National Semiconductor; PackageTopMarking: LKRB*XTT; PowerWise: N; CompType: LDO IC; High-Reliability: Y; DatasheetVersion: Jan-2011; PackageVersion: revD, Aug-2008; PackageReference: MF05A; PackageDescription: Molded SOT-23, .115 x .063 x .040 in Body, 5 Lead, .0375 in Pitch; RoHS: N; PinCount: 5; ComponentLink1Description: Manufacturer URL; ComponentLink1URL: http://www.national.com/; ComponentLink2Description: LP5951 Datasheet; ComponentLink2URL: http://www.national.com/ds/LP/LP5951.pdf; ComponentLink3Description: LP5951 Web Page; ComponentLink3URL: http://www.national.com/pf/LP/LP5951.html; ComponentLink4Description: MF05A Package Page; ComponentLink4URL: http://www.national.com/packaging/folders/mf05a.html
footprint MF05A_N (SOT23, 5-Leads, Body 2.9x1.6mm, Pitch 0.95mm, Lead Span 2.8mm, IPC Medium Density)
footprint MF05A_L (SOT23, 5-Leads, Body 2.9x1.6mm, Pitch 0.95mm, Lead Span 2.8mm, IPC High Density)
footprint MF05A_M (SOT23, 5-Leads, Body 2.9x1.6mm, Pitch 0.95mm, Lead Span 2.8mm, IPC Low Density)
pins: 1 IN (power), 2 GND (power), 3 EN (in), 4 NC, 5 OUT (power)